# Altium integrated library DMG2301L-7.IntLib: 1 symbol
Pins are listed as number, name and electrical type; pins without a type are passive.

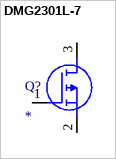
[diagram p0: symbol DMG2301L-7]

## DMG2301L-7
designator Q?
P-Channel 20 V 3A (Ta) 1.5W (Ta) Surface Mount SOT-23-3; MF: Diodes Inc.; MP: DMG2301L-7; Value: *; Purchase-URL: https://pricing.snapeda.com/search/part/DMG2301L-7/?ref=eda; Price: None; Check_prices: https://www.snapeda.com/parts/DMG2301L-7/Diodes+Inc./view-part/?ref=eda; SnapEDA_Link: https://www.snapeda.com/parts/DMG2301L-7/Diodes+Inc./view-part/?ref=snap; Availability: In Stock; Package: SOT-23 Diodes Inc.
footprint SOT96P240X110-3N
pins: 1 G (io), 2 S (io), 3 D (io)